# Altium schematic symbol library SCH - AMP AUDIO - ANALOG SSM3515CCBZ-RL.SchLib: 1 symbol
Pins are listed as number, name and electrical type; pins without a type are passive.

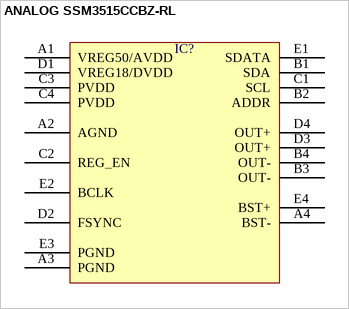
[diagram p0: symbol ANALOG SSM3515CCBZ-RL]

## ANALOG SSM3515CCBZ-RL
designator IC?  (value not drawn)
pins: A1 VREG50/AVDD, A2 AGND, A3 PGND, A4 BST-, B1 SDA, B2 ADDR, B3 OUT-, B4 OUT-, C1 SCL, C2 REG_EN, C3 PVDD, C4 PVDD, D1 VREG18/DVDD, D2 FSYNC, D3 OUT+, D4 OUT+, E1 SDATA, E2 BCLK, E3 PGND, E4 BST+